# EAGLE library part SHIFT_REGISTER (library awqua_eagle_library)
SN74HC595 Shift Register from Texas Instruments
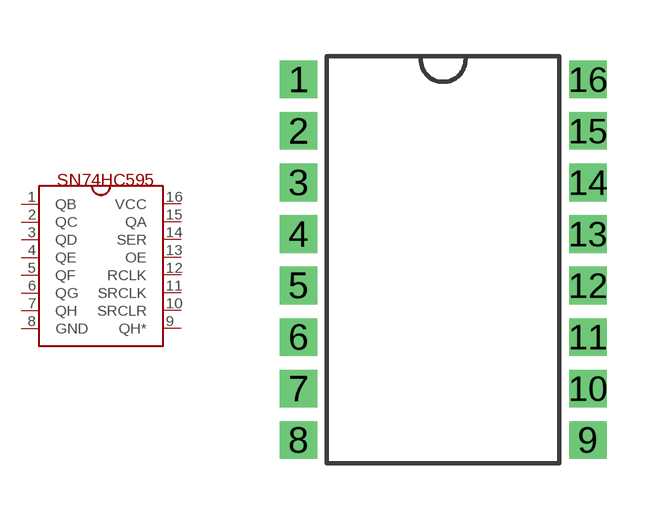
[diagram p0: symbol with the pads of SHIFT_REGISTER; footprint SHIFT_REGISTER]

Designator prefix -

## SHIFT_REGISTERSN74HC595  [SHIFT_REGISTER]
1  QB
2  QC
3  QD
4  QE
5  QF
6  QG
7  QH
8  GND
9  QH*
10  SRCLR
11  SRCLK
12  RCLK
13  OE
14  SER
15  QA
16  VCC

## Footprint SHIFT_REGISTER (pad centres in mm)
drill 0.5 square: 1 -0.765,10.29; 2 -0.765,8.91; 3 -0.765,7.53; 4 -0.765,6.15; 5 -0.765,4.77; 6 -0.765,3.39; 7 -0.765,2.01; 8 -0.765,0.63; 9 6.985,0.63; 10 6.985,2.01; 11 6.985,3.39; 12 6.985,4.77; 13 6.985,6.15; 14 6.985,7.53; 15 6.985,8.91; 16 6.985,10.29